# EAGLE library part SN76489 (library SN76489)
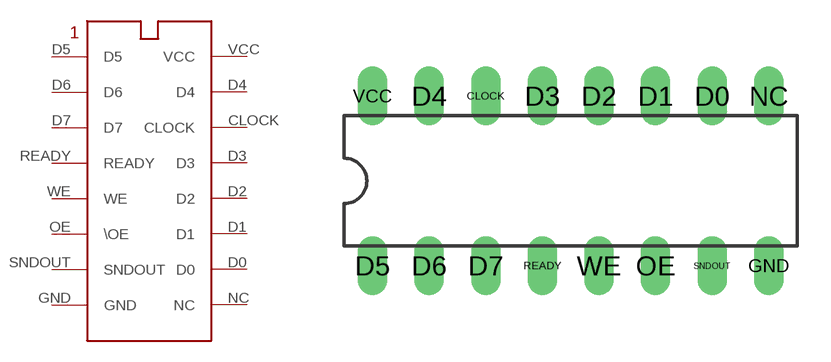
[diagram p0: symbol with the pads of DIL16; footprint DIL16]

Designator prefix -

## SN76489SN76489  [DIL16]
CLOCK  CLOCK
D0  D0
D1  D1
D2  D2
D3  D3
D4  D4
D5  D5
D6  D6
D7  D7
GND  GND
NC  NC  nc
OE  \OE
READY  READY
SNDOUT  SNDOUT  out
VCC  VCC  pwr
WE  WE

## Footprint DIL16 (pad centres in mm)
Dual In Line Package
drill 0.813 long: CLOCK -3.81,3.81; D0 6.35,3.81; D1 3.81,3.81; D2 1.27,3.81; D3 -1.27,3.81; D4 -6.35,3.81; D5 -8.89,-3.81; D6 -6.35,-3.81; D7 -3.81,-3.81; GND 8.89,-3.81; NC 8.89,3.81; OE 3.81,-3.81; READY -1.27,-3.81; SNDOUT 6.35,-3.81; VCC -8.89,3.81; WE 1.27,-3.81